# Altium footprint library R_SHUN.PcbLib: 2 footprints
Each footprint in its own frame and in the unit in brackets; x right, y up, seen from the top. Pads: shape width x height; smd on the part's side, far side on the other; paste and mask are expansions set on the pad; w line width, h text height; cw(c..) or ccw(c..) is an arc to the next point about the centre after c.
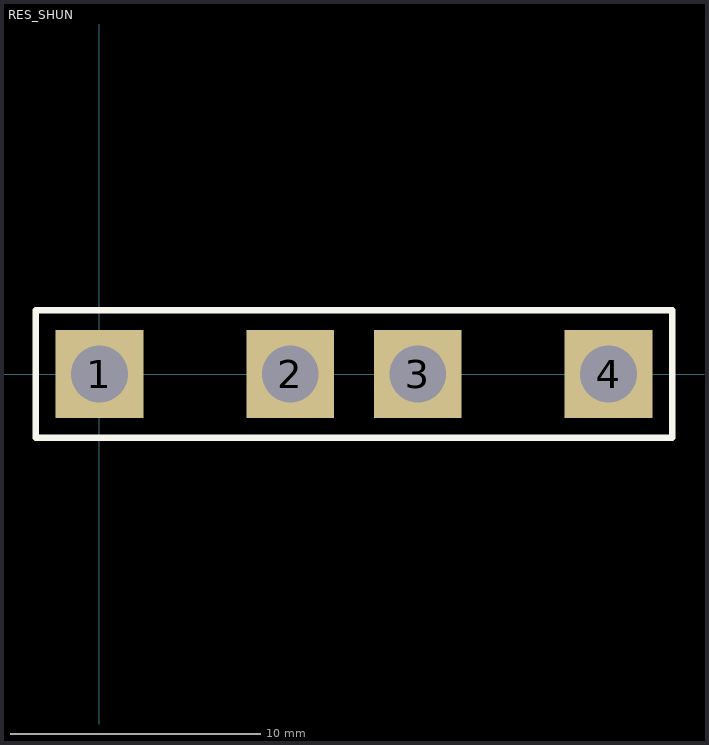
[diagram p0: the footprints below, top view; thin cyan lines are the x and y axes]

## PCBComponent_1 [mm]

## RES_SHUN [mm]
pads (4):
  rect 3.5x3.5 hole 2.26 square: 1(0,0) 2(7.62,0) 3(12.7,0) 4(20.32,0)
Top Overlay:
  lines w0.254: -2.54,-2.54 -2.54,2.54 22.86,2.54 22.86,-2.54 -2.54,-2.54